# Altium footprint library K50-29.PcbLib: 1 footprints
Each footprint in its own frame and in the unit in brackets; x right, y up, seen from the top. Pads: shape width x height; smd on the part's side, far side on the other; paste and mask are expansions set on the pad; w line width, h text height; cw(c..) or ccw(c..) is an arc to the next point about the centre after c.
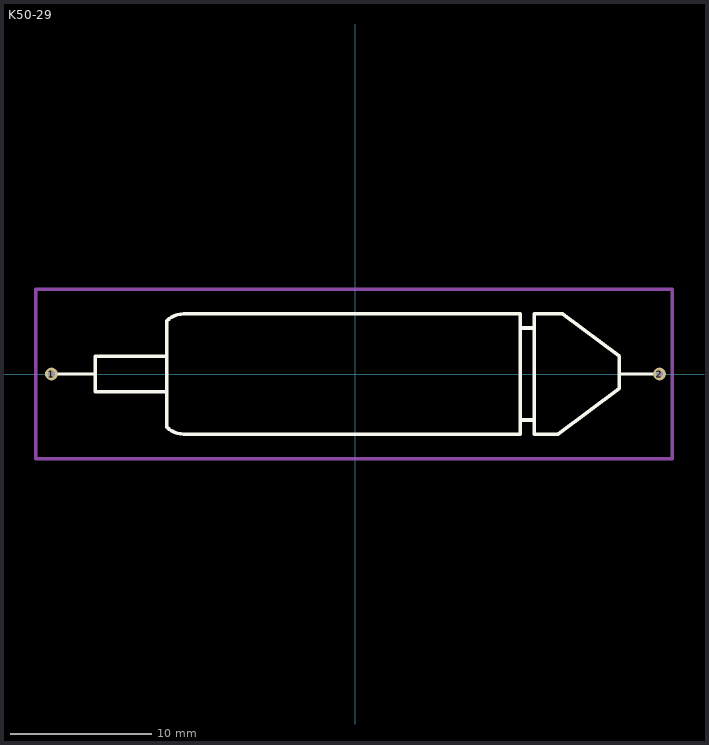
[diagram p0: the footprint, top view; thin cyan lines are the x and y axes]

## K50-29 [mm]
pads (2):
  round 0.9 hole 0.5: 1(-21.5,0) 2(21.5,0)
Top Overlay:
  lines w0.2: -21.25,0 -18.5,0 ; 18.775,0 21.5,0
  lines w0.254: -13.4,-1.25 -18.4,-1.25 -18.4,1.25 -13.4,1.25 ; 11.65,-3.25 12.65,-3.25 ; 11.65,3.25 12.65,3.25 ; -13.35,-3.75 ccw(c-12.143,-2.543) -12.143,-4.25 11.65,-4.25 11.65,4.25 -12.143,4.25 ccw(c-12.143,2.543) -13.35,3.75 -13.35,-3.75 ; 12.65,-4.25 12.65,4.25 14.667,4.25 18.65,1.263 18.65,-1.012 14.333,-4.25 12.65,-4.25
Mechanical 1:
  lines w0.254: -22.6,-6 22.4,-6 22.4,6 -22.6,6 -22.6,-6